# Altium footprint library STM32_H7XX_M.PcbLib: 17 footprints (part 2 of 2)
Each footprint in its own frame and in the unit in brackets; x right, y up, seen from the top. Pads: shape width x height; smd on the part's side, far side on the other; paste and mask are expansions set on the pad; w line width, h text height; cw(c..) or ccw(c..) is an arc to the next point about the centre after c.
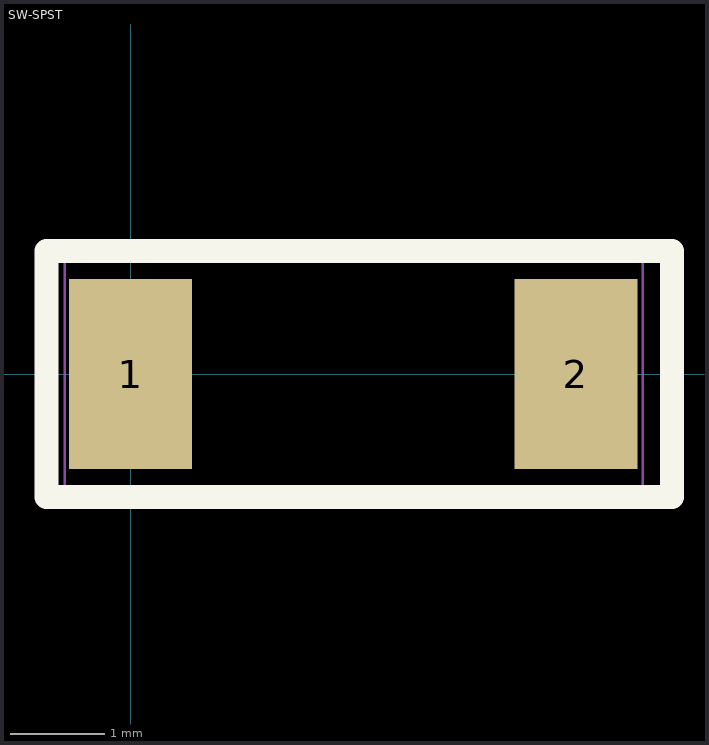
[diagram p1: the footprint, top view; thin cyan lines are the x and y axes]

## SW-SPST [mm]
pads (2):
  rect 1.3x2 smd paste+0 mask+0.2: 1(0,0) 2(4.7,0)
Top Overlay:
  lines w0.254: -0.888,-1.3 -0.888,1.3 5.716,1.3 5.716,-1.3 -0.888,-1.3
Mechanical 1:
  lines w0.025: -0.695,-1.3 -0.695,1.3 5.405,1.3 5.405,-1.3 -0.695,-1.3
Mechanical 2:
  lines w0.003: -0.695,-1.3 -0.695,1.3 5.405,1.3 5.405,-1.3 -0.695,-1.3